# EAGLE library part FT230XS (library eagle-library-edeca.net-v5)
FT230XS - USB to basic UART convertor http://www.ftdichip.com/Support/Documents/DataSheets/ICs/DS_FT230X.pdf
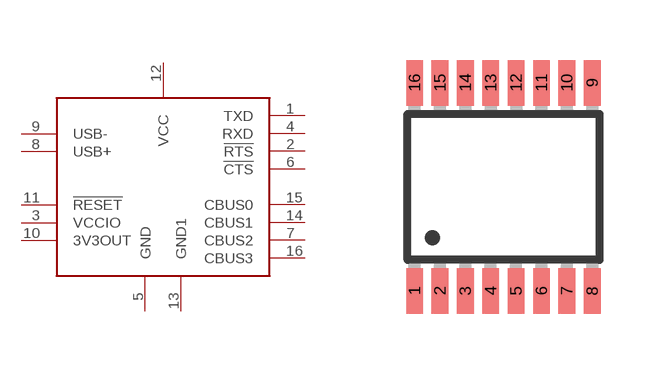
[diagram p16: symbol with the pads of SSOP16; footprint SSOP16]

Designator prefix -

## FT230XS  [SSOP16]
1  TXD
2  !RTS
3  VCCIO
4  RXD
5  GND
6  !CTS
7  CBUS2
8  USB+
9  USB-
10  3V3OUT
11  !RESET
12  VCC
13  GND1
14  CBUS1
15  CBUS0
16  CBUS3

## Footprint SSOP16 (pad centres in mm)
smd 0.419 x 1.143: 1 -2.223,-2.6; 2 -1.587,-2.6; 3 -0.953,-2.6; 4 -0.318,-2.6; 5 0.318,-2.6; 6 0.953,-2.6; 7 1.587,-2.6; 8 2.223,-2.6; 9 2.223,2.6; 10 1.587,2.6; 11 0.953,2.6; 12 0.318,2.6; 13 -0.318,2.6; 14 -0.953,2.6; 15 -1.587,2.6; 16 -2.223,2.6